# Altium schematic symbol library STM32H743VIT6.SchLib: 1 symbol
Pins are listed as number, name and electrical type; pins without a type are passive.

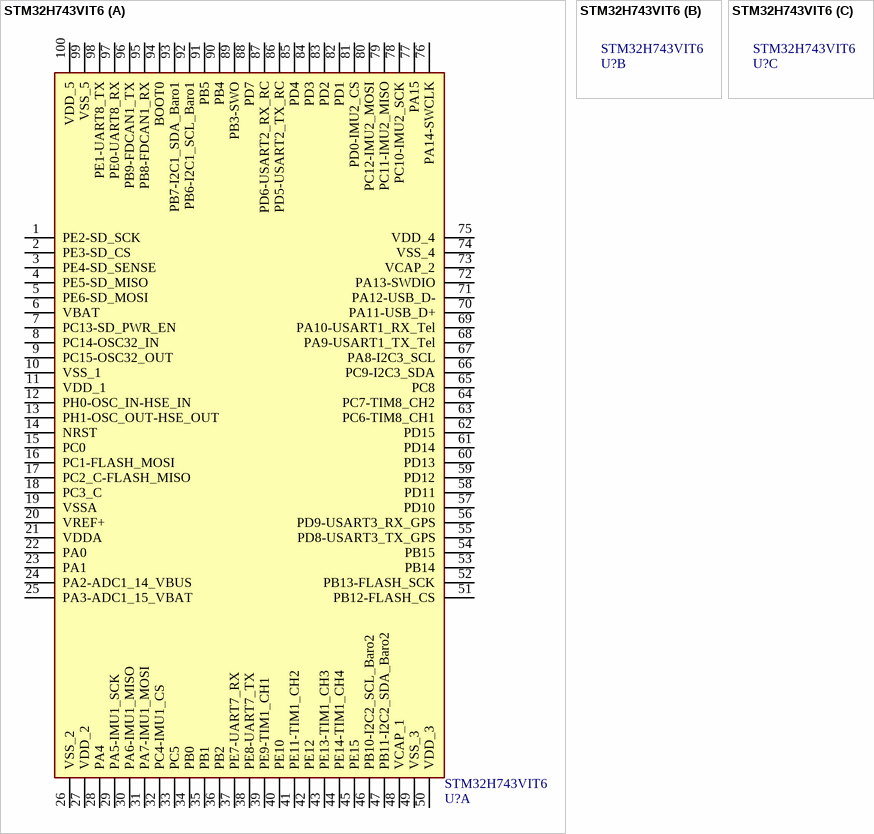
[diagram p0: symbol STM32H743VIT6]

## STM32H743VIT6
designator U?
ARM Microcontrollers - MCU High-performance and DSP with DP-FPU, ARM Cortex-M7 MCU with 2MBytes Flash, 1MB RAM, 400 MHz CPU, Art Accelerator, L1 cache, external memory interface, large set of peripherals; Manufacturer_Name: STMicroelectronics; Geometry.Height: 1.6mm; Manufacturer_Part_Number: STM32H743VIT6; Datasheet Link: https://www.st.com/resource/en/datasheet/stm32h743vi.pdf
footprint QFP50P1600X1600X160-100N (Footprint not found)
part A pins: 1 PE2-SD_SCK, 2 PE3-SD_CS, 3 PE4-SD_SENSE, 4 PE5-SD_MISO, 5 PE6-SD_MOSI, 6 VBAT, 7 PC13-SD_PWR_EN, 8 PC14-OSC32_IN, 9 PC15-OSC32_OUT, 10 VSS_1, 11 VDD_1, 12 PH0-OSC_IN-HSE_IN, 13 PH1-OSC_OUT-HSE_OUT, 14 NRST, 15 PC0, 16 PC1-FLASH_MOSI, 17 PC2_C-FLASH_MISO, 18 PC3_C, 19 VSSA, 20 VREF+, 21 VDDA, 22 PA0, 23 PA1, 24 PA2-ADC1_14_VBUS, 25 PA3-ADC1_15_VBAT, 26 VSS_2, 27 VDD_2, 28 PA4, 29 PA5-IMU1_SCK, 30 PA6-IMU1_MISO, 31 PA7-IMU1_MOSI, 32 PC4-IMU1_CS, 33 PC5, 34 PB0, 35 PB1, 36 PB2, 37 PE7-UART7_RX, 38 PE8-UART7_TX, 39 PE9-TIM1_CH1, 40 PE10, 41 PE11-TIM1_CH2, 42 PE12, 43 PE13-TIM1_CH3, 44 PE14-TIM1_CH4, 45 PE15, 46 PB10-I2C2_SCL_Baro2, 47 PB11-I2C2_SDA_Baro2, 48 VCAP_1, 49 VSS_3, 50 VDD_3, 51 PB12-FLASH_CS, 52 PB13-FLASH_SCK, 53 PB14, 54 PB15, 55 PD8-USART3_TX_GPS, 56 PD9-USART3_RX_GPS, 57 PD10, 58 PD11, 59 PD12, 60 PD13, 61 PD14, 62 PD15, 63 PC6-TIM8_CH1, 64 PC7-TIM8_CH2, 65 PC8, 66 PC9-I2C3_SDA, 67 PA8-I2C3_SCL, 68 PA9-USART1_TX_Tel, 69 PA10-USART1_RX_Tel, 70 PA11-USB_D+, 71 PA12-USB_D-, 72 PA13-SWDIO, 73 VCAP_2, 74 VSS_4, 75 VDD_4, 76 PA14-SWCLK, 77 PA15, 78 PC10-IMU2_SCK, 79 PC11-IMU2_MISO, 80 PC12-IMU2_MOSI, 81 PD0-IMU2_CS, 82 PD1, 83 PD2, 84 PD3, 85 PD4, 86 PD5-USART2_TX_RC, 87 PD6-USART2_RX_RC, 88 PD7, 89 PB3-SWO, 90 PB4, 91 PB5, 92 PB6-I2C1_SCL_Baro1, 93 PB7-I2C1_SDA_Baro1, 94 BOOT0, 95 PB8-FDCAN1_RX, 96 PB9-FDCAN1_TX, 97 PE0-UART8_RX, 98 PE1-UART8_TX, 99 VSS_5, 100 VDD_5